# EAGLE library part BC847BPN (library tranzistory SMD NPN)
NPN PNP Transistor
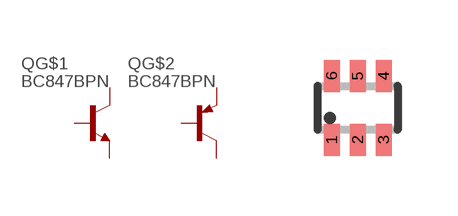
[diagram p0: symbol with the pads of SOT363_PHILIPS; footprint SOT363_PHILIPS]

Designator prefix Q; gates G$1=NPN G$2=PNP

## BC847BPN  [SOT363_PHILIPS]
1  G$1:E  pas
2  G$1:B  pas
3  G$2:C  pas
4  G$2:E  pas
5  G$2:B  pas
6  G$1:C  pas

## Footprint SOT363_PHILIPS (pad centres in mm)
Small Outline Transistor; 6 leads Philips Semiconductors, SOT363.pdf
smd 0.4 x 0.8: 1 -0.65,-0.8; 2 0,-0.8; 3 0.65,-0.8; 4 0.65,0.8; 5 0,0.8; 6 -0.65,0.8